# EAGLE library part TUSB6250 (library tusb6250)
Texas Instruments USB to IDE bridge
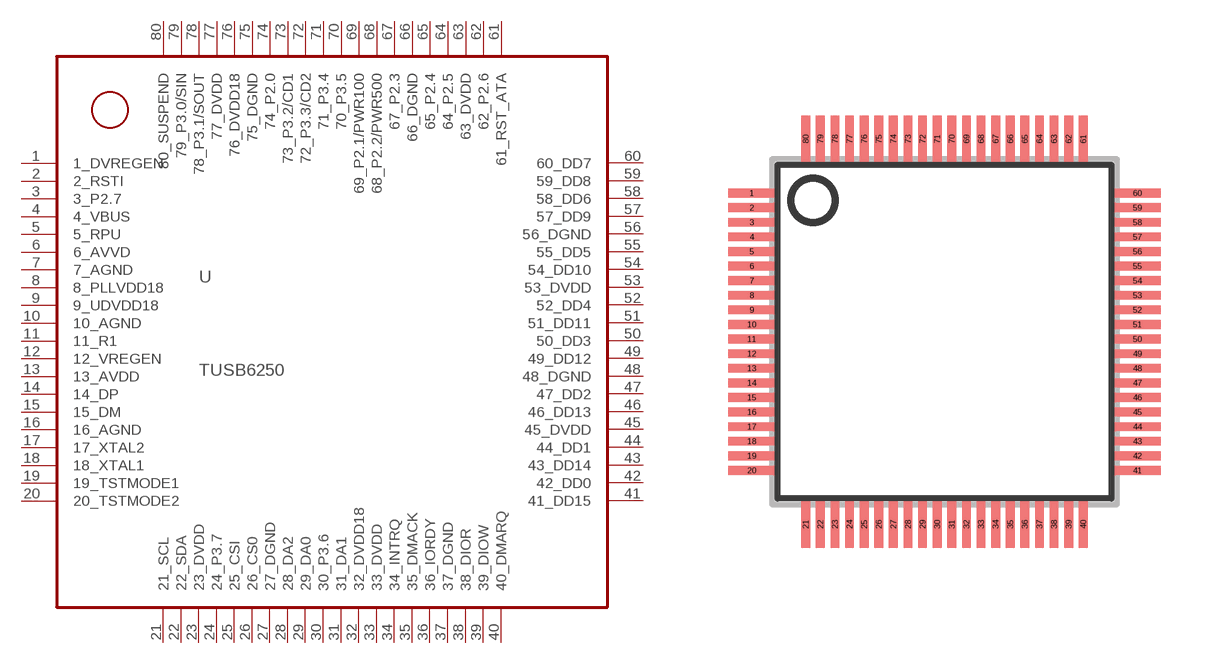
[diagram p0: symbol with the pads of SQFP-S-12X12-80; footprint SQFP-S-12X12-80]

Designator prefix U

## TUSB6250  [SQFP-S-12X12-80]
1  1_DVREGEN  oc
2  2_RSTI  oc
3  3_P2.7  oc
4  4_VBUS  oc
5  5_RPU  oc
6  6_AVVD  oc
7  7_AGND  oc
8  8_PLLVDD18  oc
9  9_UDVDD18  oc
10  10_AGND  oc
11  11_R1  oc
12  12_VREGEN  oc
13  13_AVDD  oc
14  14_DP  oc
15  15_DM  oc
16  16_AGND  oc
17  17_XTAL2  oc
18  18_XTAL1  oc
19  19_TSTMODE1  oc
20  20_TSTMODE2  oc
21  21_SCL  oc
22  22_SDA  oc
23  23_DVDD  oc
24  24_P3.7  oc
25  25_CSI  oc
26  26_CS0  oc
27  27_DGND  oc
28  28_DA2  oc
29  29_DA0  oc
30  30_P3.6  oc
31  31_DA1  oc
32  32_DVDD18  oc
33  33_DVDD  oc
34  34_INTRQ  oc
35  35_DMACK  oc
36  36_IORDY  oc
37  37_DGND  oc
38  38_DIOR  oc
39  39_DIOW  oc
40  40_DMARQ  oc
41  41_DD15  oc
42  42_DD0  oc
43  43_DD14  oc
44  44_DD1  oc
45  45_DVDD  oc
46  46_DD13  oc
47  47_DD2  oc
48  48_DGND  oc
49  49_DD12  oc
50  50_DD3  oc
51  51_DD11  oc
52  52_DD4  oc
53  53_DVDD  oc
54  54_DD10  oc
55  55_DD5  oc
56  56_DGND  oc
57  57_DD9  oc
58  58_DD6  oc
59  59_DD8  oc
60  60_DD7  oc
61  61_RST_ATA  oc
62  62_P2.6  oc
63  63_DVDD  oc
64  64_P2.5  oc
65  65_P2.4  oc
66  66_DGND  oc
67  67_P2.3  oc
68  68_P2.2/PWR500  oc
69  69_P2.1/PWR100  oc
70  70_P3.5  oc
71  71_P3.4  oc
72  72_P3.3/CD2  oc
73  73_P3.2/CD1  oc
74  74_P2.0  oc
75  75_DGND  oc
76  76_DVDD18  oc
77  77_DVDD  oc
78  78_P3.1/SOUT  oc
79  79_P3.0/SIN  oc
80  80_SUSPEND  oc

## Footprint SQFP-S-12X12-80 (pad centres in mm)
QFP80 shrink quad flat pack, square
smd 1.6 x 0.3: 1 -6.6,4.75; 2 -6.6,4.25; 3 -6.6,3.75; 4 -6.6,3.25; 5 -6.6,2.75; 6 -6.6,2.25; 7 -6.6,1.75; 8 -6.6,1.25; 9 -6.6,0.75; 10 -6.6,0.25; 11 -6.6,-0.25; 12 -6.6,-0.75; 13 -6.6,-1.25; 14 -6.6,-1.75; 15 -6.6,-2.25; 16 -6.6,-2.75; 17 -6.6,-3.25; 18 -6.6,-3.75; 19 -6.6,-4.25; 20 -6.6,-4.75; 41 6.6,-4.75; 42 6.6,-4.25; 43 6.6,-3.75; 44 6.6,-3.25; 45 6.6,-2.75; 46 6.6,-2.25; 47 6.6,-1.75; 48 6.6,-1.25; 49 6.6,-0.75; 50 6.6,-0.25; 51 6.6,0.25; 52 6.6,0.75; 53 6.6,1.25; 54 6.6,1.75; 55 6.6,2.25; 56 6.6,2.75; 57 6.6,3.25; 58 6.6,3.75; 59 6.6,4.25; 60 6.6,4.75
smd 0.3 x 1.6: 21 -4.75,-6.6; 22 -4.25,-6.6; 23 -3.75,-6.6; 24 -3.25,-6.6; 25 -2.75,-6.6; 26 -2.25,-6.6; 27 -1.75,-6.6; 28 -1.25,-6.6; 29 -0.75,-6.6; 30 -0.25,-6.6; 31 0.25,-6.6; 32 0.75,-6.6; 33 1.25,-6.6; 34 1.75,-6.6; 35 2.25,-6.6; 36 2.75,-6.6; 37 3.25,-6.6; 38 3.75,-6.6; 39 4.25,-6.6; 40 4.75,-6.6; 61 4.75,6.6; 62 4.25,6.6; 63 3.75,6.6; 64 3.25,6.6; 65 2.75,6.6; 66 2.25,6.6; 67 1.75,6.6; 68 1.25,6.6; 69 0.75,6.6; 70 0.25,6.6; 71 -0.25,6.6; 72 -0.75,6.6; 73 -1.25,6.6; 74 -1.75,6.6; 75 -2.25,6.6; 76 -2.75,6.6; 77 -3.25,6.6; 78 -3.75,6.6; 79 -4.25,6.6; 80 -4.75,6.6